# Altium footprint library !Connectors Rectangular Other.PcbLib: 19 footprints (part 1 of 2)
Each footprint in its own frame and in the unit in brackets; x right, y up, seen from the top. Pads: shape width x height; smd on the part's side, far side on the other; paste and mask are expansions set on the pad; w line width, h text height; cw(c..) or ccw(c..) is an arc to the next point about the centre after c.
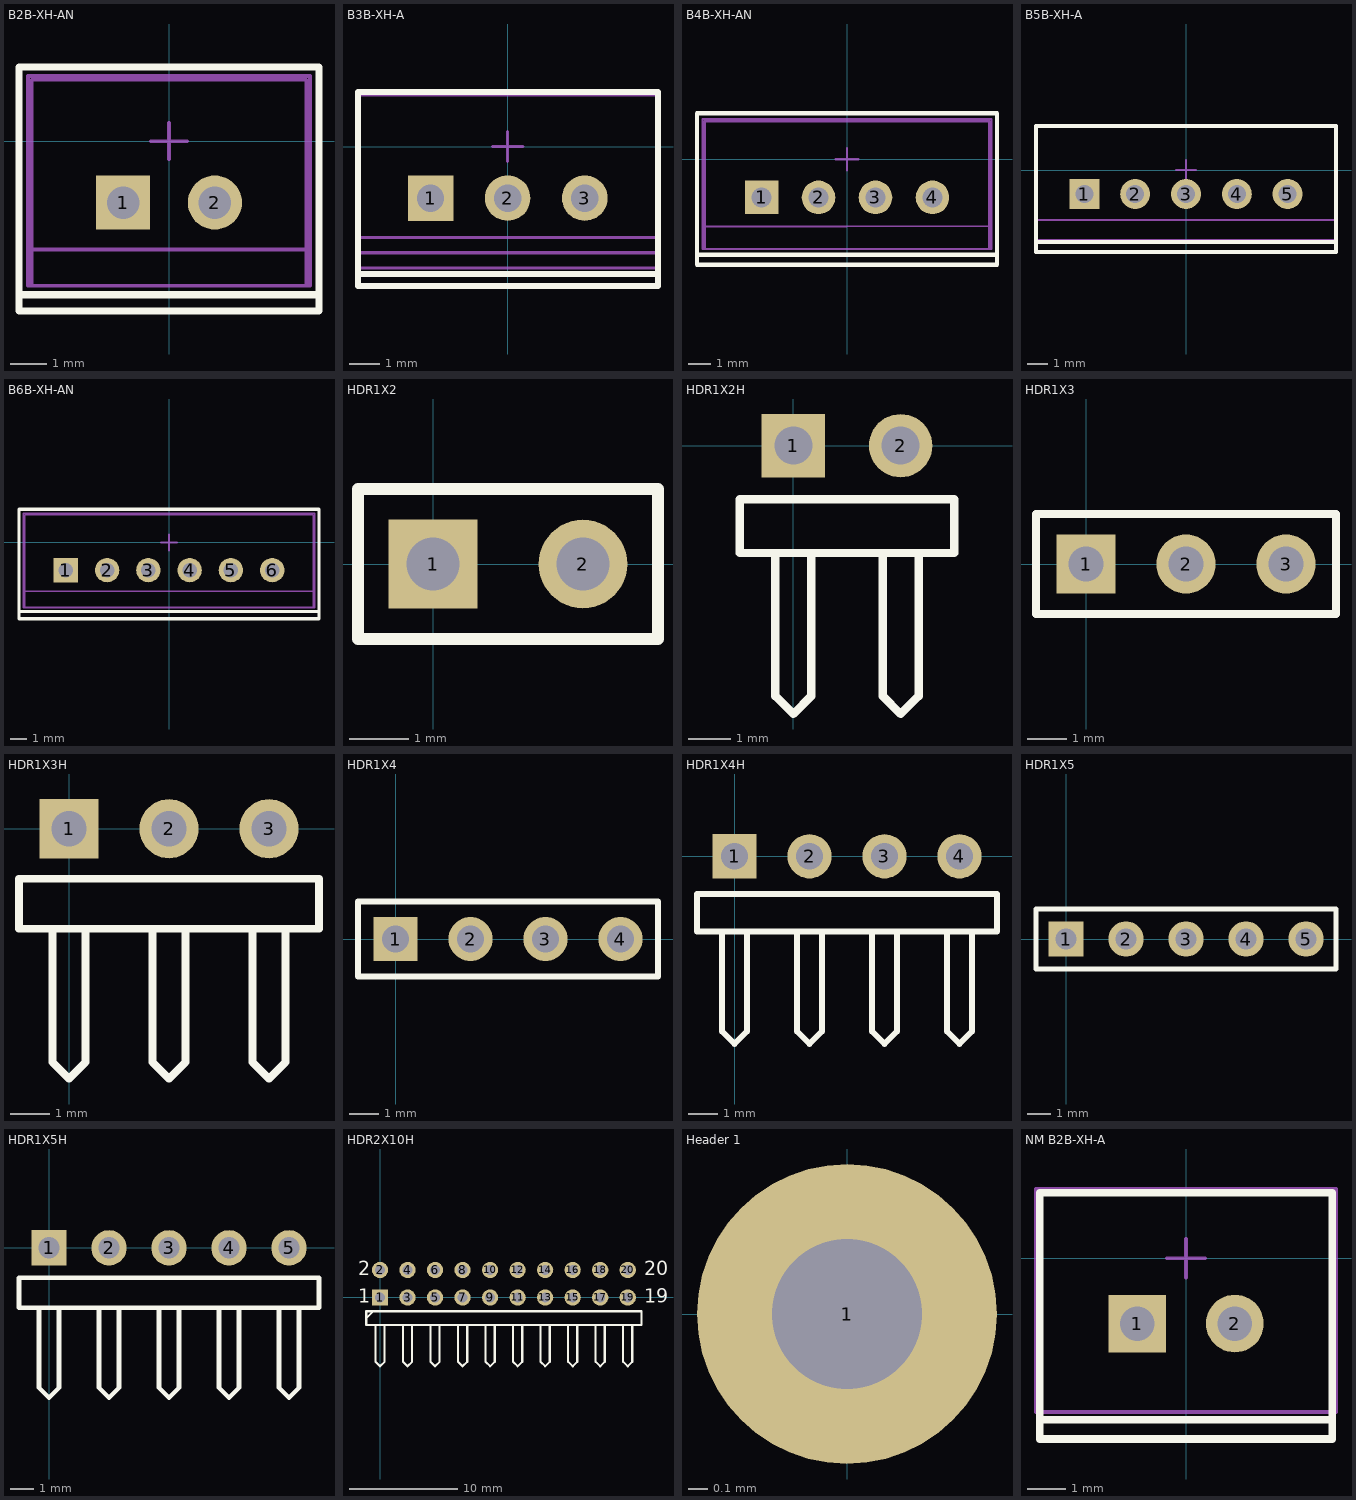
[diagram p0: the footprints below, top view; thin cyan lines are the x and y axes]

## B2B-XH-AN [mm] "XH connector; Place for header 2pins 2.54 pitch"
height 7
pads (2):
  rect 1.5x1.5 hole 0.9: 1(-1.27,-1.7)
  round 1.5 hole 0.9: 2(1.27,-1.7)
Top Overlay:
  lines w0.2: -4.15,-4.25 4.15,-4.25 ; -4.15,-4.7 -4.15,2.05 4.15,2.05 4.15,-4.7 -4.15,-4.7
Top Package:
  circle w0.1: c-1.27,-1.7 r0.4
  circle w0.1: c1.27,-1.7 r0.4
  lines w0.1: -3.8,-3 3.8,-3 ; -3.8,-4 -3.8,1.7 3.8,1.7 3.8,-4 -3.8,-4
Top Border:
  lines w0.1: -0.5,0 0.5,0 ; 0,-0.5 0,0.5 ; -3.9,-4 3.9,-4 3.9,1.8 -3.9,1.8 -3.9,-4
3D body "B2B-XH-A.STEP": height 7, standoff -3.4, extent -3.7,-4.05 3.7,1.7

## B3B-XH-A [mm] "XH connector; Place for header 3pins 2.54 pitch"
height 7
pads (3):
  rect 1.5x1.5 hole 0.9: 1(-2.54,-1.7)
  round 1.5 hole 0.9: 2(0,-1.7) 3(2.54,-1.7)
Top Overlay:
  lines w0.2: -4.93,-4.2 4.953,-4.2 ; -4.93,-4.6 -4.93,1.8 4.953,1.8 4.953,-4.6 -4.93,-4.6
Top Package:
  circle w0.1: c-2.54,-1.7 r0.568
  circle w0.1: c0,-1.7 r0.568
  circle w0.1: c2.54,-1.7 r0.568
  lines w0.1: -4.93,-3 4.95,-3 ; -4.93,-4 -4.93,1.8 4.95,1.8 4.95,-4 -4.93,-4
Top Border:
  lines w0.1: -4.93,-3.5 4.95,-3.5 ; -0.5,0 0.5,0 ; 0,-0.5 0,0.5 ; -4.93,-4.6 -4.93,1.7 4.95,1.7 4.95,-4.6 -4.93,-4.6
3D body "B3B-XH-A.STEP": height 7, standoff -3.4, extent -4.95,-4.1 4.95,1.65

## B4B-XH-AN [mm] "XH connector; Place for header 4pins 2.54 pitch"
height 7
pads (4):
  rect 1.5x1.5 hole 0.9: 1(-3.81,-1.7)
  round 1.5 hole 0.9: 2(-1.27,-1.7) 3(1.27,-1.7) 4(3.81,-1.7)
Top Overlay:
  lines w0.2: -6.69,-4.25 6.69,-4.25 ; -6.69,-4.7 -6.69,2.05 6.69,2.05 6.69,-4.7 -6.69,-4.7
Top Package:
  circle w0.1: c3.81,-1.7 r0.4
  circle w0.1: c-3.81,-1.7 r0.4
  circle w0.1: c1.27,-1.7 r0.4
  circle w0.1: c-1.27,-1.7 r0.4
  lines w0.1: -6.35,-3.006 6.325,-2.975 ; -6.34,-4 6.34,-4 6.34,1.7 -6.34,1.7 -6.34,-4
Top Border:
  lines w0.1: -0.5,0 0.5,0 ; 0,-0.5 0,0.5 ; -6.44,-4 6.44,-4 6.44,1.8 -6.44,1.8 -6.44,-4
3D body "B4B-XH-A.STEP": height 7, standoff -3.4, extent -6.2,-4.05 6.2,1.7

## B5B-XH-A [mm] "XH connector; Place for header 5pins 2.54 pitch"
height 7
pads (5):
  rect 1.5x1.5 hole 0.9: 1(-5.08,-1.2)
  round 1.5 hole 0.9: 2(-2.54,-1.2) 3(0,-1.2) 4(2.54,-1.2) 5(5.08,-1.2)
Top Overlay:
  lines w0.2: -7.5,-3.6 7.5,-3.6 ; -7.5,-4.1 -7.5,2.2 7.5,2.2 7.5,-4.1 -7.5,-4.1
Top Package:
  circle w0.1: c-5.08,-1.2 r0.568
  circle w0.1: c5.08,-1.2 r0.568
  circle w0.1: c-2.54,-1.2 r0.568
  circle w0.1: c0,-1.2 r0.568
  circle w0.1: c2.54,-1.2 r0.568
  lines w0.1: -7.5,-2.5 7.5,-2.5 ; -7.5,-3.5 -7.5,2.2 7.5,2.2 7.5,-3.5 -7.5,-3.5
Top Border:
  lines w0.1: -7.5,-2.5 7.5,-2.5 ; -0.5,0 0.5,0 ; 0,-0.5 0,0.5 ; -7.5,-3.5 7.5,-3.5 7.5,2.2 -7.5,2.2 -7.5,-3.5
3D body "B5B-XH-A.step": height 7, standoff -3.4, extent -7.45,-3.55 7.45,2.2

## B6B-XH-AN [mm] "XH connector; Place for header 6pins 2.54 pitch"
height 7
pads (6):
  rect 1.5x1.5 hole 0.9: 1(-6.35,-1.7)
  round 1.5 hole 0.9: 2(-3.81,-1.7) 3(-1.27,-1.7) 4(1.27,-1.7) 5(3.81,-1.7) 6(6.35,-1.7)
Top Overlay:
  lines w0.2: -9.23,-4.25 9.23,-4.25 ; -9.23,-4.7 -9.23,2.05 9.23,2.05 9.23,-4.7 -9.23,-4.7
Top Package:
  circle w0.1: c6.35,-1.7 r0.4
  circle w0.1: c3.81,-1.7 r0.4
  circle w0.1: c-6.35,-1.7 r0.4
  circle w0.1: c-3.81,-1.7 r0.4
  circle w0.1: c1.27,-1.7 r0.4
  circle w0.1: c-1.27,-1.7 r0.4
  lines w0.1: -8.875,-3 8.875,-3 ; -8.88,-4 8.88,-4 8.88,1.7 -8.88,1.7 -8.88,-4
Top Border:
  lines w0.1: -0.5,0 0.5,0 ; 0,-0.5 0,0.5 ; -8.98,-4 8.98,-4 8.98,1.8 -8.98,1.8 -8.98,-4
3D body "B6B-XH-A.stp": height 7, standoff -3.4, extent -8.725,-4 8.675,1.75

## HDR1X2 [mm] "Connector; Header; 2 Position"
pads (2):
  rect 1.5x1.5 hole 0.9: 1(0,0)
  round 1.5 hole 0.9: 2(2.54,0)
Top Overlay:
  lines w0.2: -1.27,-1.27 -1.27,1.27 3.81,1.27 3.81,-1.27 -1.27,-1.27
3D body "User Library-Header_Male_2Pin.STEP": height 8.54, standoff -3, extent -1.27,-1.245 3.81,1.245

## HDR1X2H [mm] "Connector; Header; 2 Position; Right Angle"
pads (2):
  rect 1.5x1.5 hole 0.9: 1(0,0)
  round 1.5 hole 0.9: 2(2.54,0)
Top Overlay:
  lines w0.2: -0.423,-2.54 -0.423,-5.927 0,-6.35 0.423,-5.927 0.423,-2.54 ; 2.117,-2.54 2.117,-5.927 2.54,-6.35 2.963,-5.927 2.963,-2.54 ; -1.27,-2.54 -1.27,-1.27 3.81,-1.27 3.81,-2.54 -1.27,-2.54

## HDR1X3 [mm] "Connector; Header; 3 Position"
pads (3):
  rect 1.5x1.5 hole 0.9: 1(0,0)
  round 1.5 hole 0.9: 2(2.54,0) 3(5.08,0)
Top Overlay:
  lines w0.2: -1.27,-1.27 -1.27,1.27 6.35,1.27 6.35,-1.27 -1.27,-1.27
3D body "User Library-Header_Male_3Pin.STEP": height 8.54, standoff -3, extent -1.27,-1.245 6.35,1.245

## HDR1X3H [mm] "Connector; Header; 3 Position; Right Angle"
pads (3):
  rect 1.5x1.5 hole 0.9: 1(0,0)
  round 1.5 hole 0.9: 2(2.54,0) 3(5.08,0)
Top Overlay:
  lines w0.2: -0.423,-2.54 -0.423,-5.927 0,-6.35 0.423,-5.927 0.423,-2.54 ; 2.117,-2.54 2.117,-5.927 2.54,-6.35 2.963,-5.927 2.963,-2.54 ; 4.657,-2.54 4.657,-5.927 5.08,-6.35 5.503,-5.927 5.503,-2.54 ; -1.27,-2.54 6.35,-2.54 6.35,-1.27 -1.27,-1.27 -1.27,-2.54

## HDR1X4 [mm] "Connector; Header; 4 Position"
pads (4):
  rect 1.5x1.5 hole 0.9: 1(0,0)
  round 1.5 hole 0.9: 2(2.54,0) 3(5.08,0) 4(7.62,0)
Top Overlay:
  lines w0.2: -1.27,-1.27 -1.27,1.27 8.89,1.27 8.89,-1.27 -1.27,-1.27
3D body "User Library-Header_Male_4Pin.STEP": height 8.54, standoff -3, extent -1.27,-1.245 8.89,1.245

## HDR1X4H [mm] "Connector; Header; 4 Position; Right Angle"
pads (4):
  rect 1.5x1.5 hole 0.9: 1(0,0)
  round 1.5 hole 0.9: 2(2.54,0) 3(5.08,0) 4(7.62,0)
Top Overlay:
  lines w0.2: -0.423,-2.54 -0.423,-5.927 0,-6.35 0.423,-5.927 0.423,-2.54 ; 2.117,-2.54 2.117,-5.927 2.54,-6.35 2.963,-5.927 2.963,-2.54 ; 4.657,-2.54 4.657,-5.927 5.08,-6.35 5.503,-5.927 5.503,-2.54 ; 7.197,-2.54 7.197,-5.927 7.62,-6.35 8.043,-5.927 8.043,-2.54 ; -1.27,-2.54 8.89,-2.54 8.89,-1.27 -1.27,-1.27 -1.27,-2.54

## HDR1X5 [mm] "Connector; Header; 5 Position"
pads (5):
  rect 1.5x1.5 hole 0.9: 1(0,0)
  round 1.5 hole 0.9: 2(2.54,0) 3(5.08,0) 4(7.62,0) 5(10.16,0)
Top Overlay:
  lines w0.2: -1.27,-1.27 -1.27,1.27 11.43,1.27 11.43,-1.27 -1.27,-1.27

## HDR1X5H [mm] "Connector; Header; 5 Position; Right Angle"
pads (5):
  rect 1.5x1.5 hole 0.9: 1(0,0)
  round 1.5 hole 0.9: 2(2.54,0) 3(5.08,0) 4(7.62,0) 5(10.16,0)
Top Overlay:
  lines w0.2: -0.423,-2.54 -0.423,-5.927 0,-6.35 0.423,-5.927 0.423,-2.54 ; 2.117,-2.54 2.117,-5.927 2.54,-6.35 2.963,-5.927 2.963,-2.54 ; 4.657,-2.54 4.657,-5.927 5.08,-6.35 5.503,-5.927 5.503,-2.54 ; 7.197,-2.54 7.197,-5.927 7.62,-6.35 8.043,-5.927 8.043,-2.54 ; 9.737,-2.54 9.737,-5.927 10.16,-6.35 10.583,-5.927 10.583,-2.54 ; -1.27,-2.54 11.43,-2.54 11.43,-1.27 -1.27,-1.27 -1.27,-2.54

## HDR2X10H [mm] "Connector; Header; 10x2 Position; Right Angle"
pads (20):
  rect 1.5x1.5 hole 0.9: 1(0,0)
  round 1.5 hole 0.9: 2(0,2.54) 3(2.54,0) 4(2.54,2.54) 5(5.08,0) 6(5.08,2.54) 7(7.62,0) 8(7.62,2.54) 9(10.16,0) 10(10.16,2.54) 11(12.7,0) 12(12.7,2.54) 13(15.24,0) 14(15.24,2.54) 15(17.78,0) 16(17.78,2.54) 17(20.32,0) 18(20.32,2.54) 19(22.86,0) 20(22.86,2.54)
Top Overlay:
  lines w0.2: -1.27,-1.905 -0.635,-1.27 ; -0.423,-2.54 -0.423,-5.927 0,-6.35 0.423,-5.927 0.423,-2.54 ; 2.117,-2.54 2.117,-5.927 2.54,-6.35 2.963,-5.927 2.963,-2.54 ; 4.657,-2.54 4.657,-5.927 5.08,-6.35 5.503,-5.927 5.503,-2.54 ; 7.197,-2.54 7.197,-5.927 7.62,-6.35 8.043,-5.927 8.043,-2.54 ; 9.737,-2.54 9.737,-5.927 10.16,-6.35 10.583,-5.927 10.583,-2.54 ; 12.277,-2.54 12.277,-5.927 12.7,-6.35 13.123,-5.927 13.123,-2.54 ; 14.817,-2.54 14.817,-5.927 15.24,-6.35 15.663,-5.927 15.663,-2.54 ; 17.357,-2.54 17.357,-5.927 17.78,-6.35 18.203,-5.927 18.203,-2.54 ; 19.897,-2.54 19.897,-5.927 20.32,-6.35 20.743,-5.927 20.743,-2.54 ; 22.437,-2.54 22.437,-5.927 22.86,-6.35 23.283,-5.927 23.283,-2.54 ; -1.27,-2.54 -1.27,-1.27 24.13,-1.27 24.13,-2.54 -1.27,-2.54
  text "1" at -2.032,-0.508 h1.27
  text "2" at -2.032,2.032 h1.27
  text "19" at 24.384,-0.508 h1.27
  text "20" at 24.384,2.032 h1.27

## Header 1 [mil]
pads (1):
  round 60 hole 30: 1(0,0)

## NM B2B-XH-A [mm] "XH connector; Place for header 2pins 2.54 pitch"
height 7
pads (2):
  rect 1.5x1.5 hole 0.9: 1(-1.27,-1.7)
  round 1.5 hole 0.9: 2(1.27,-1.7)
Top Overlay:
  lines w0.2: -3.8,-4.2 3.8,-4.2 ; -3.8,-4.7 3.8,-4.7 3.8,1.7 -3.8,1.7 -3.8,-4.7
Top Border:
  lines w0.1: -0.5,0 0.5,0 ; 0,-0.5 0,0.5 ; -3.9,-4 -3.9,1.8 3.9,1.8 3.9,-4 -3.9,-4